# Altium footprint library BBT_TI.PcbLib: 1 footprints
Each footprint in its own frame and in the unit in brackets; x right, y up, seen from the top. Pads: shape width x height; smd on the part's side, far side on the other; paste and mask are expansions set on the pad; w line width, h text height; cw(c..) or ccw(c..) is an arc to the next point about the centre after c.
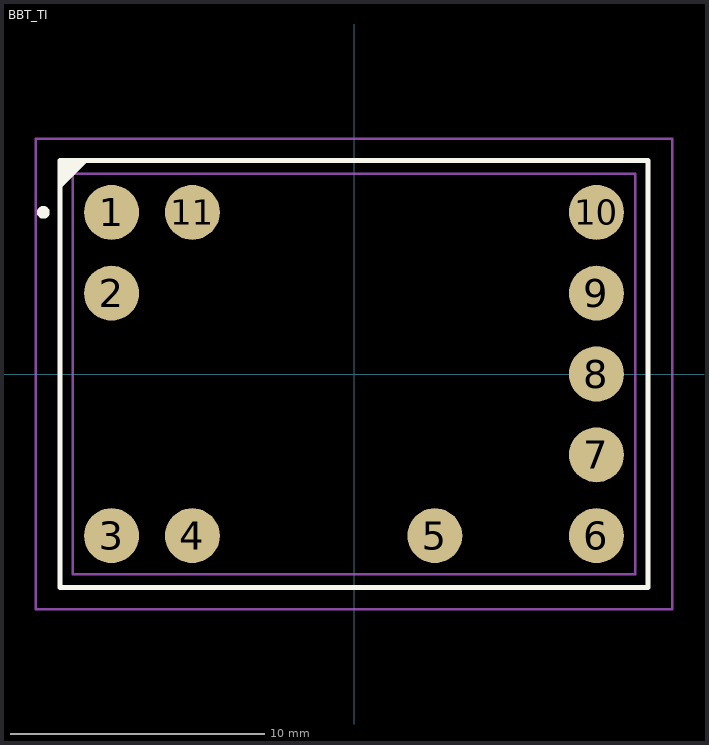
[diagram p0: the footprint, top view; thin cyan lines are the x and y axes]

## BBT_TI [mm]
height 9.09
pads (11):
  round 2.16 smd: 1(-9.525,6.35) 2(-9.525,3.175) 3(-9.525,-6.35) 4(-6.35,-6.35) 5(3.175,-6.35) 6(9.525,-6.35) 7(9.525,-3.175) 8(9.525,0) 9(9.525,3.175) 10(9.525,6.35) 11(-6.35,6.35)
Top Overlay:
  circle w0.25: c-12.205,6.35 r0.125
  region: -10.555,8.38 -11.555,7.38 -11.555,8.38
  lines w0.2: -11.555,7.38 -10.555,8.38 ; -11.555,-8.38 11.555,-8.38 11.555,8.38 -11.555,8.38 -11.555,-8.38
Mechanical 13:
  lines w0.1: -11.05,-7.875 11.05,-7.875 11.05,7.875 -11.05,7.875 -11.05,-7.875
Mechanical 15:
  lines w0.1: -12.5,-9.25 12.5,-9.25 12.5,9.25 -12.5,9.25 -12.5,-9.25
3D body: height 8.9, standoff -0.06, extent -11.1,-7.9 11,7.85